# EAGLE library part F37?S (library con-subd)
SUB-D
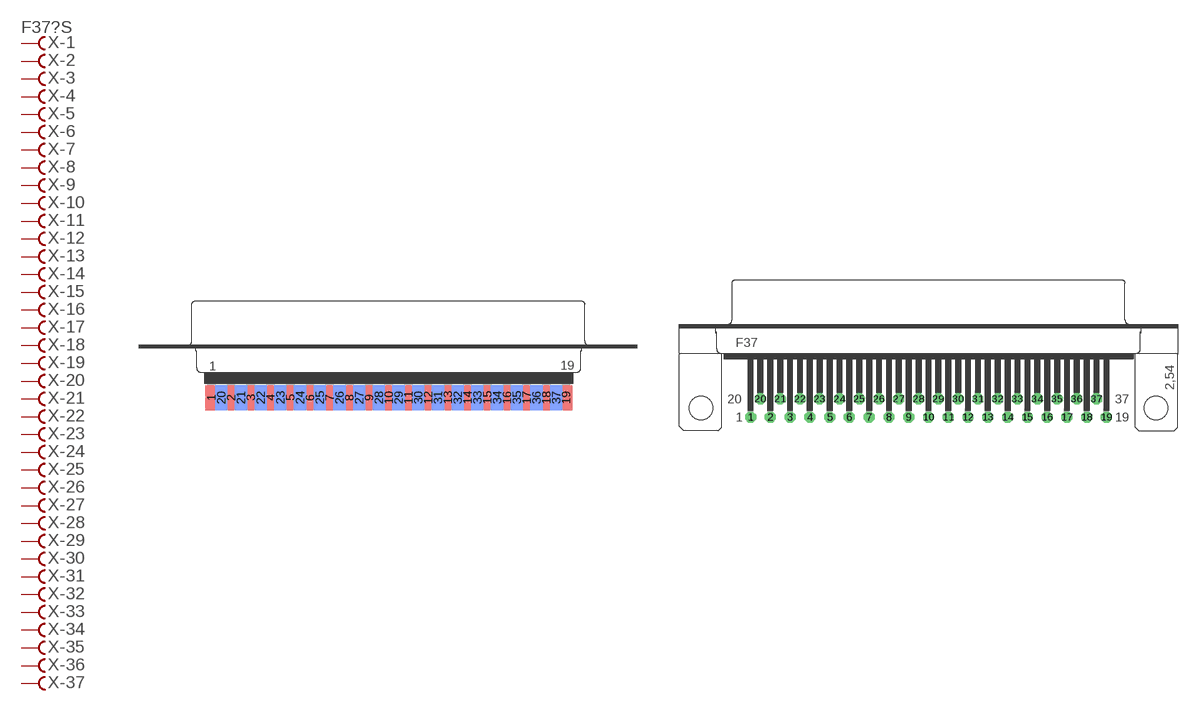
[diagram p60: symbol with the pads of F37D; footprints F37D, F37H]

Designator prefix X; gates -1=FV -2=F -3=F -4=F -5=F -6=F -7=F -8=F -9=F -10=F -11=F -12=F -13=F -14=F -15=F -16=F -17=F -18=F -19=F -20=F -21=F -22=F -23=F -24=F -25=F -26=F -27=F -28=F -29=F -30=F -31=F -32=F -33=F -34=F -35=F -36=F -37=F

## F37DS (OC_FARNELL: unknown; OC_NEWARK: unknown)  [F37D]
1  -1:F  pas
2  -2:F  pas
3  -3:F  pas
4  -4:F  pas
5  -5:F  pas
6  -6:F  pas
7  -7:F  pas
8  -8:F  pas
9  -9:F  pas
10  -10:F  pas
11  -11:F  pas
12  -12:F  pas
13  -13:F  pas
14  -14:F  pas
15  -15:F  pas
16  -16:F  pas
17  -17:F  pas
18  -18:F  pas
19  -19:F  pas
20  -20:F  pas
21  -21:F  pas
22  -22:F  pas
23  -23:F  pas
24  -24:F  pas
25  -25:F  pas
26  -26:F  pas
27  -27:F  pas
28  -28:F  pas
29  -29:F  pas
30  -30:F  pas
31  -31:F  pas
32  -32:F  pas
33  -33:F  pas
34  -34:F  pas
35  -35:F  pas
36  -36:F  pas
37  -37:F  pas

## F37HS (OC_FARNELL: unknown; OC_NEWARK: unknown)  [F37H]
Pads as for F37D

## F37VS (OC_FARNELL: unknown; OC_NEWARK: unknown)  [F37V]
Pads as for F37D

## F37VPS (OC_FARNELL: unknown; OC_NEWARK: unknown)  [F37VP]
Pads as for F37D

## F37VBS (OC_FARNELL: unknown; OC_NEWARK: unknown)  [F37VB]
Pads as for F37D

## F37HPS (OC_FARNELL: unknown; OC_NEWARK: unknown)  [F37HP]
Pads as for F37D

## F37.590S (OC_FARNELL: unknown; OC_NEWARK: unknown)  [177-037-FEMALE]
Pads as for F37D

## Footprint F37D (pad centres in mm)
SUB-D
smd 1.7 x 3.5: 1 -24.689,-6.045; 2 -21.946,-6.045; 3 -19.202,-6.045; 4 -16.459,-6.045; 5 -13.716,-6.045; 6 -10.973,-6.045; 7 -8.23,-6.045; 8 -5.486,-6.045; 9 -2.743,-6.045; 10 0,-6.045; 11 2.743,-6.045; 12 5.486,-6.045; 13 8.23,-6.045; 14 10.973,-6.045; 15 13.716,-6.045; 16 16.459,-6.045; 17 19.202,-6.045; 18 21.946,-6.045; 19 24.689,-6.045
smd 1.7 x 3.5 bottom: 20 -23.317,-6.045; 21 -20.574,-6.045; 22 -17.831,-6.045; 23 -15.088,-6.045; 24 -12.344,-6.045; 25 -9.601,-6.045; 26 -6.858,-6.045; 27 -4.115,-6.045; 28 -1.372,-6.045; 29 1.372,-6.045; 30 4.115,-6.045; 31 6.858,-6.045; 32 9.601,-6.045; 33 12.344,-6.045; 34 15.088,-6.045; 35 17.831,-6.045; 36 20.574,-6.045; 37 23.317,-6.045

## Footprint F37H (pad centres in mm)
SUB-D
drill 1.016 octagon: 1 -24.841,-1.27; 2 -22.073,-1.27; 3 -19.329,-1.27; 4 -16.561,-1.27; 5 -13.792,-1.27; 6 -11.049,-1.27; 7 -8.28,-1.27; 8 -5.512,-1.27; 9 -2.769,-1.27; 10 0,-1.27; 11 2.769,-1.27; 12 5.512,-1.27; 13 8.28,-1.27; 14 11.049,-1.27; 15 13.818,-1.27; 16 16.561,-1.27; 17 19.329,-1.27; 18 22.098,-1.27; 19 24.841,-1.27; 20 -23.47,1.27; 21 -20.701,1.27; 22 -17.932,1.27; 23 -15.189,1.27; 24 -12.421,1.27; 25 -9.652,1.27; 26 -6.909,1.27; 27 -4.14,1.27; 28 -1.372,1.27; 29 1.372,1.27; 30 4.14,1.27; 31 6.909,1.27; 32 9.677,1.27; 33 12.421,1.27; 34 15.189,1.27; 35 17.958,1.27; 36 20.701,1.27; 37 23.47,1.27
hole 3.302 at -31.75,0
hole 3.302 at 31.75,0

## Footprint F37V (pad centres in mm)
SUB-D
drill 1.016 octagon: 1 24.841,1.422; 2 22.073,1.422; 3 19.329,1.422; 4 16.561,1.422; 5 13.792,1.422; 6 11.049,1.422; 7 8.28,1.422; 8 5.512,1.422; 9 2.769,1.422; 10 0,1.422; 11 -2.769,1.422; 12 -5.512,1.422; 13 -8.28,1.422; 14 -11.049,1.422; 15 -13.818,1.422; 16 -16.561,1.422; 17 -19.329,1.422; 18 -22.098,1.422; 19 -24.841,1.422; 20 23.47,-1.422; 21 20.701,-1.422; 22 17.932,-1.422; 23 15.189,-1.422; 24 12.421,-1.422; 25 9.652,-1.422; 26 6.909,-1.422; 27 4.14,-1.422; 28 1.372,-1.422; 29 -1.372,-1.422; 30 -4.14,-1.422; 31 -6.909,-1.422; 32 -9.677,-1.422; 33 -12.421,-1.422; 34 -15.189,-1.422; 35 -17.958,-1.422; 36 -20.701,-1.422; 37 -23.47,-1.422
hole 3.302 at 31.75,0
hole 3.302 at -31.75,0

## Footprint F37VP (pad centres in mm)
SUB-D
drill 1.016 octagon: 1 24.841,1.422; 2 22.073,1.422; 3 19.329,1.422; 4 16.561,1.422; 5 13.792,1.422; 6 11.049,1.422; 7 8.28,1.422; 8 5.512,1.422; 9 2.769,1.422; 10 0,1.422; 11 -2.769,1.422; 12 -5.512,1.422; 13 -8.28,1.422; 14 -11.049,1.422; 15 -13.818,1.422; 16 -16.561,1.422; 17 -19.329,1.422; 18 -22.098,1.422; 19 -24.841,1.422; 20 23.47,-1.422; 21 20.701,-1.422; 22 17.932,-1.422; 23 15.189,-1.422; 24 12.421,-1.422; 25 9.652,-1.422; 26 6.909,-1.422; 27 4.14,-1.422; 28 1.372,-1.422; 29 -1.372,-1.422; 30 -4.14,-1.422; 31 -6.909,-1.422; 32 -9.677,-1.422; 33 -12.421,-1.422; 34 -15.189,-1.422; 35 -17.958,-1.422; 36 -20.701,-1.422; 37 -23.47,-1.422
drill 3.302 pad 5.08: G1 -31.75,0; G2 31.75,0

## Footprint F37VB (pad centres in mm)
SUB-D
drill 1.016 octagon: 1 -24.841,-1.422; 2 -22.073,-1.422; 3 -19.329,-1.422; 4 -16.561,-1.422; 5 -13.792,-1.422; 6 -11.049,-1.422; 7 -8.28,-1.422; 8 -5.512,-1.422; 9 -2.769,-1.422; 10 0,-1.422; 11 2.769,-1.422; 12 5.512,-1.422; 13 8.28,-1.422; 14 11.049,-1.422; 15 13.818,-1.422; 16 16.561,-1.422; 17 19.329,-1.422; 18 22.098,-1.422; 19 24.841,-1.422; 20 -23.47,1.422; 21 -20.701,1.422; 22 -17.932,1.422; 23 -15.189,1.422; 24 -12.421,1.422; 25 -9.652,1.422; 26 -6.909,1.422; 27 -4.14,1.422; 28 -1.372,1.422; 29 1.372,1.422; 30 4.14,1.422; 31 6.909,1.422; 32 9.677,1.422; 33 12.421,1.422; 34 15.189,1.422; 35 17.958,1.422; 36 20.701,1.422; 37 23.47,1.422

## Footprint F37HP (pad centres in mm)
SUB-D
drill 1.016 octagon: 1 -24.841,-1.27; 2 -22.073,-1.27; 3 -19.329,-1.27; 4 -16.561,-1.27; 5 -13.792,-1.27; 6 -11.049,-1.27; 7 -8.28,-1.27; 8 -5.512,-1.27; 9 -2.769,-1.27; 10 0,-1.27; 11 2.769,-1.27; 12 5.512,-1.27; 13 8.28,-1.27; 14 11.049,-1.27; 15 13.818,-1.27; 16 16.561,-1.27; 17 19.329,-1.27; 18 22.098,-1.27; 19 24.841,-1.27; 20 -23.47,1.27; 21 -20.701,1.27; 22 -17.932,1.27; 23 -15.189,1.27; 24 -12.421,1.27; 25 -9.652,1.27; 26 -6.909,1.27; 27 -4.14,1.27; 28 -1.372,1.27; 29 1.372,1.27; 30 4.14,1.27; 31 6.909,1.27; 32 9.677,1.27; 33 12.421,1.27; 34 15.189,1.27; 35 17.958,1.27; 36 20.701,1.27; 37 23.47,1.27
drill 3.302 pad 5.08: G1 -31.75,0; G2 31.75,0

## Footprint 177-037-FEMALE (pad centres in mm)
NorComp 177 Series (0.590" Foorprint) Female 37 Pol. Source: Digi-Key, subd.pdf
drill 1.194 pad 1.524 octagon: 1 -24.917,-9.84; 2 -22.149,-9.84; 3 -19.38,-9.84; 4 -16.612,-9.84; 5 -13.843,-9.84; 6 -11.074,-9.84; 7 -8.306,-9.84; 8 -5.537,-9.84; 9 -2.769,-9.84; 10 0,-9.84; 11 2.769,-9.84; 12 5.537,-9.84; 13 8.306,-9.84; 14 11.074,-9.84; 15 13.843,-9.84; 16 16.612,-9.84; 17 19.38,-9.84; 18 22.149,-9.84; 19 24.917,-9.84; 20 -23.533,-6.997; 21 -20.765,-6.997; 22 -17.996,-6.997; 23 -15.227,-6.997; 24 -12.459,-6.997; 25 -9.69,-6.997; 26 -6.921,-6.997; 27 -4.153,-6.997; 28 -1.384,-6.997; 29 1.384,-6.997; 30 4.153,-6.997; 31 6.921,-6.997; 32 9.69,-6.997; 33 12.459,-6.997; 34 15.227,-6.997; 35 17.996,-6.997; 36 20.765,-6.997; 37 23.533,-6.997